# Altium schematic symbol library BOT1_2025.SchLib: 300 symbols (part 3 of 3)
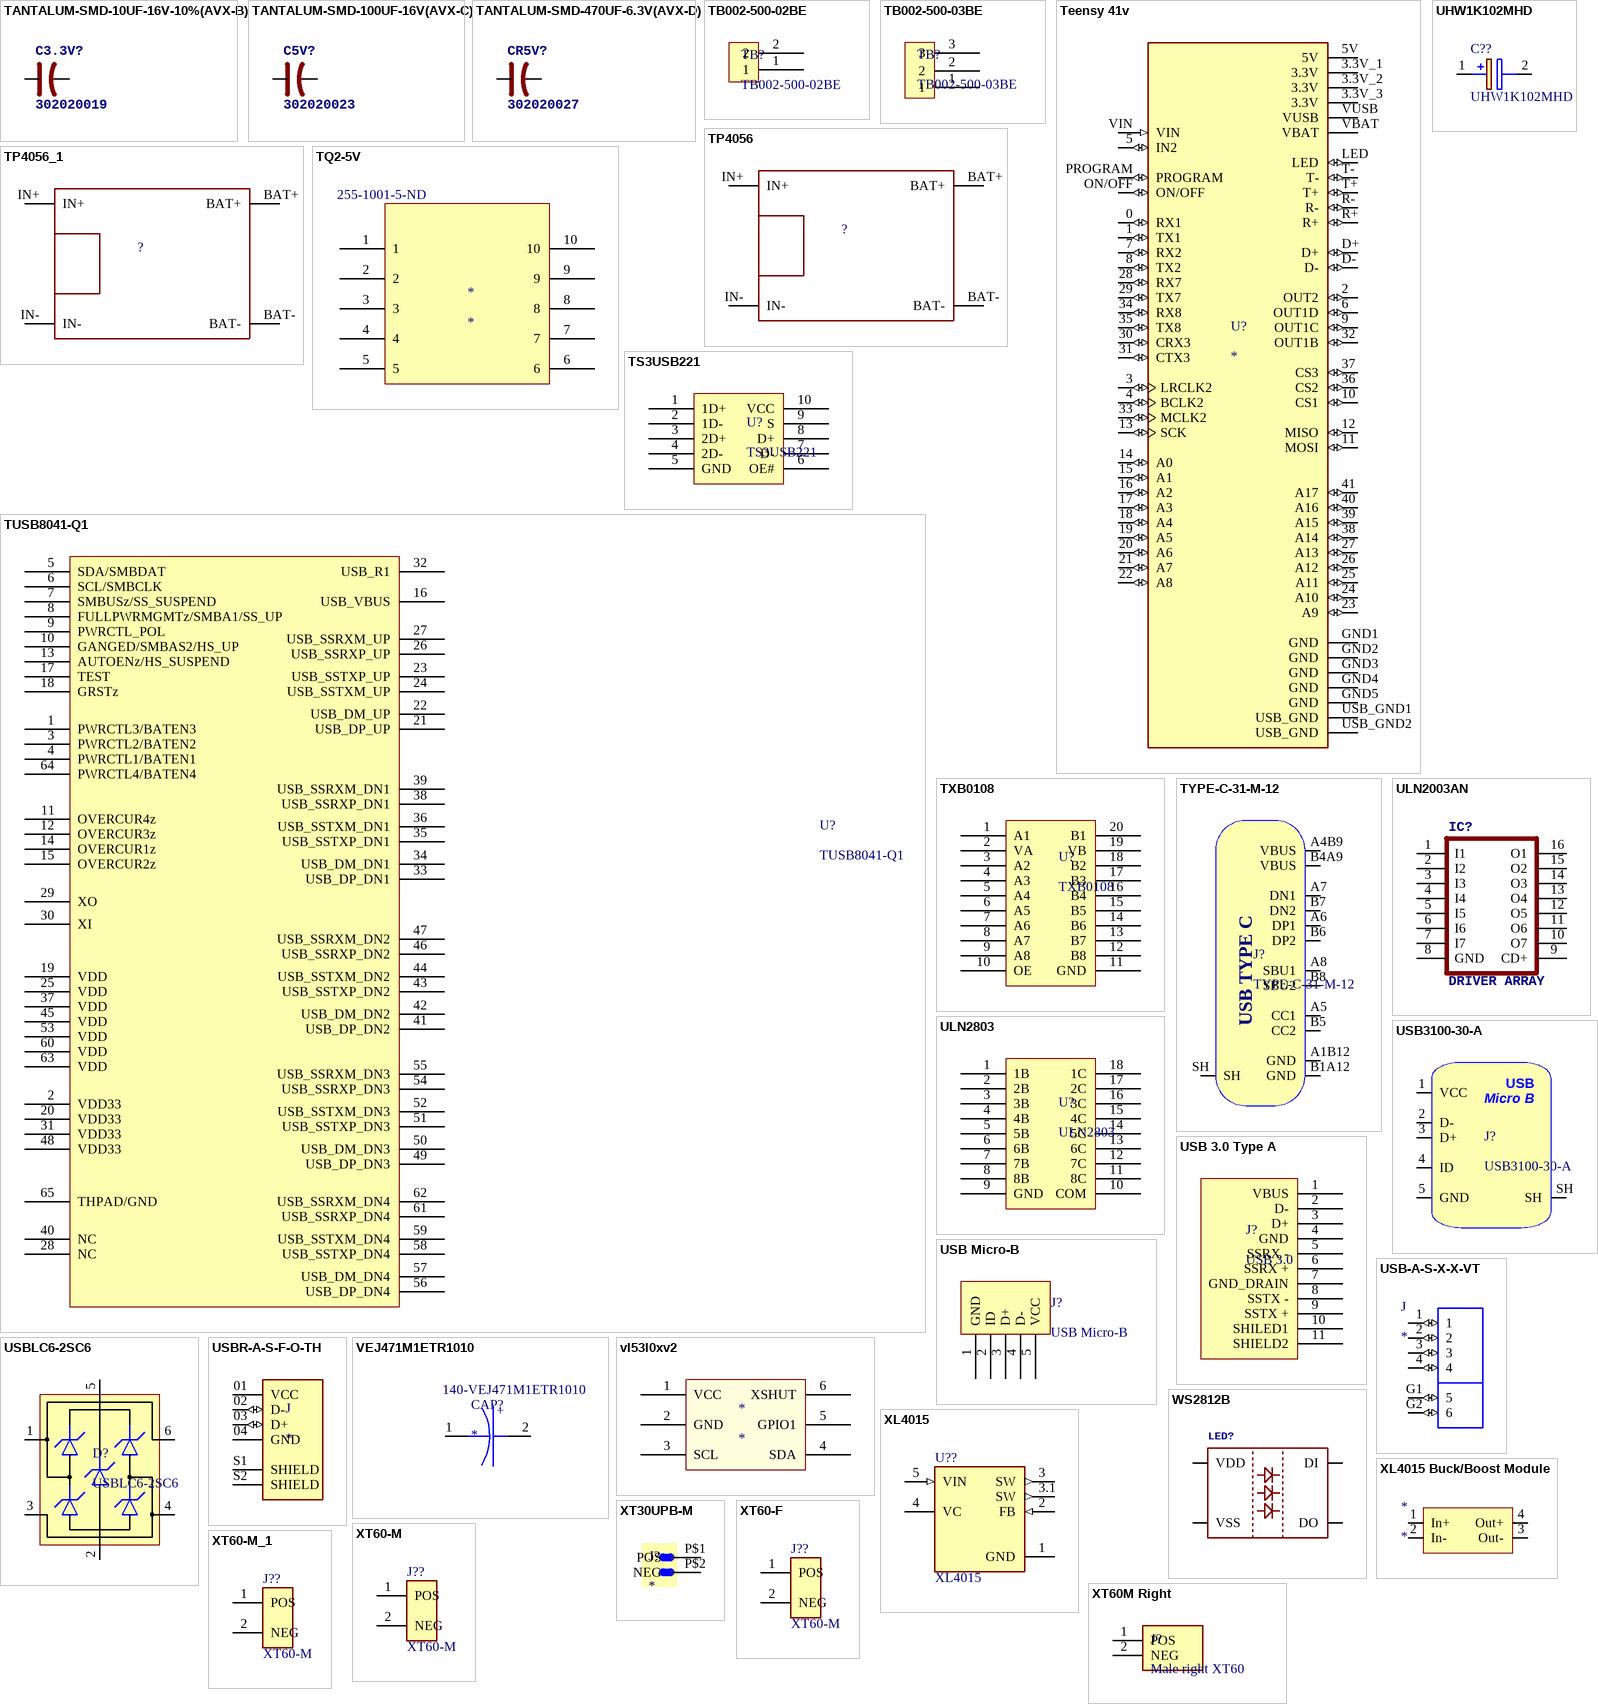
[diagram p10: symbols TANTALUM-SMD-10UF-16V-10%(AVX-B) to XT60M Right]

## TUSB8041-Q1
designator U?
Four-Port USB 3.0 Hub
footprint PM064_N (64-Pin Thin Quad Flat Pack 0.5 mm Pitch, IPC Medium Density)
pins: 1 PWRCTL3/BATEN3, 2 VDD33, 3 PWRCTL2/BATEN2, 4 PWRCTL1/BATEN1, 5 SDA/SMBDAT, 6 SCL/SMBCLK, 7 SMBUSz/SS_SUSPEND, 8 FULLPWRMGMTz/SMBA1/SS_UP, 9 PWRCTL_POL, 10 GANGED/SMBAS2/HS_UP, 11 OVERCUR4z, 12 OVERCUR3z, 13 AUTOENz/HS_SUSPEND, 14 OVERCUR1z, 15 OVERCUR2z, 16 USB_VBUS, 17 TEST , 18 GRSTz, 19 VDD, 20 VDD33, 21 USB_DP_UP, 22 USB_DM_UP, 23 USB_SSTXP_UP, 24 USB_SSTXM_UP, 25 VDD, 26 USB_SSRXP_UP, 27 USB_SSRXM_UP, 28 NC, 29 XO, 30 XI, 31 VDD33, 32 USB_R1, 33 USB_DP_DN1, 34 USB_DM_DN1, 35 USB_SSTXP_DN1, 36 USB_SSTXM_DN1, 37 VDD, 38 USB_SSRXP_DN1, 39 USB_SSRXM_DN1, 40 NC, 41 USB_DP_DN2, 42 USB_DM_DN2, 43 USB_SSTXP_DN2, 44 USB_SSTXM_DN2, 45 VDD, 46 USB_SSRXP_DN2, 47 USB_SSRXM_DN2, 48 VDD33, 49 USB_DP_DN3, 50 USB_DM_DN3, 51 USB_SSTXP_DN3, 52 USB_SSTXM_DN3, 53 VDD, 54 USB_SSRXP_DN3, 55 USB_SSRXM_DN3, 56 USB_DP_DN4, 57 USB_DM_DN4, 58 USB_SSTXP_DN4, 59 USB_SSTXM_DN4, 60 VDD, 61 USB_SSRXP_DN4, 62 USB_SSRXM_DN4, 63 VDD, 64 PWRCTL4/BATEN4, 65 THPAD/GND

## TXB0108
designator U?
8-Bit Bidirectional Voltage-Level Translator
footprint SOP20
pins: 1 A1, 2 VA, 3 A2, 4 A3, 5 A4, 6 A5, 7 A6, 8 A7, 9 A8, 10 OE, 11 GND, 12 B8, 13 B7, 14 B6, 15 B5, 16 B4, 17 B3, 18 B2, 19 VB, 20 B1

## TYPE-C-31-M-12
designator J?
USB Type C Connector Horizontal SMT; Manufacturer: Koren Hroparts; Manufacturer Part Number: TYPE-C-31-M-12
footprint TYPE-C-31-M-12
pins: A1B12 GND (power), A4B9 VBUS (power), A5 CC1, A6 DP1 (io), A7 DN1 (io), A8 SBU1 (io), B1A12 GND (power), B4A9 VBUS (power), B5 CC2 (hiz), B6 DP2 (io), B7 DN2 (io), B8 SBU2 (io), SH (power)
text: USB TYPE C

## UHW1K102MHD
designator C??
Capacitor Polarised; Manufacturer_Name: Nichicon; Datasheet Link: https://componentsearchengine.com/Datasheets/1/UHW1K102MHD.pdf; Height: 37.5mm; Manufacturer_Part_Number: UHW1K102MHD; Mouser Part Number: 647-UHW1K102MHD; Mouser Price/Stock: https://www.mouser.com/Search/Refine.aspx?Keyword=647-UHW1K102MHD
footprint CAPPRD750W80D1625H3750
pins: 1 +, 2 -

## ULN2003AN
designator IC?, comment DRIVER ARRAY
footprint DIL16
pins: 1 I1, 2 I2, 3 I3, 4 I4, 5 I5, 6 I6, 7 I7, 8 GND (power), 9 CD+, 10 O7 (oc), 11 O6 (oc), 12 O5 (oc), 13 O4 (oc), 14 O3 (oc), 15 O2 (oc), 16 O1 (oc)

## ULN2803
designator U?
Darlington Transistor Arrays
footprint SOIC 18 (16-Pin Small Outline Integrated Circuit 1.27 mm Pitch, IPC Low Density)
pins: 1 1B, 2 2B, 3 3B, 4 4B, 5 5B, 6 6B, 7 7B, 8 8B, 9 GND, 10 COM, 11 8C, 12 7C, 13 6C, 14 5C, 15 4C, 16 3C, 17 2C, 18 1C

## USB3100-30-A
designator J?
USB Connector Type Micro B 2.0 SMD Reverse Mount; Manufacturer: GCT; Manufacturer Part Number: USB3100-30-A
footprint USB3100-30-A
pins: 1 VCC, 2 D-, 3 D+, 4 ID, 5 GND, SH
text: USB; Micro B

## USB 3.0 Type A
designator J?, comment USB 3.0
USB 3.0 Type A Feamle
footprint USB 3.0 (Type A female)
pins: 1 VBUS, 2 D-, 3 D+, 4 GND, 5 SSRX -, 6 SSRX +, 7 GND_DRAIN, 8 SSTX -, 9 SSTX +, 10 SHILED1, 11 SHIELD2

## USB Micro-B
designator J?
footprint USB Micro - B
pins: 1 GND, 2 ID, 3 D+, 4 D-, 5 VCC

## USB-A-S-X-X-VT
designator J
USB-A _USB TYPE-A_ USB 2.0 Receptacle Connector 4 Position Through Hole; MF: Samtec Inc.; MP: USB-A-S-F-B-VT; Package: None; Value: *; Availability: Unavailable; SnapEDA_Link: https://www.snapeda.com/parts/USB-A-S-F-B-VT/Samtec%20Inc./view-part/787209/?ref=snap; Price: None
footprint USB-A-S-X-X-VT
pins: 1 (io), 2 (io), 3 (io), 4 (io), G1 5 (io), G2 6 (io)

## USBLC6-2SC6
designator D?
Low-Capacitance ESD Protection USB; Manufacturer: STMicroelectronics; Manufacturer Part Number: USBLC6-2SC6; Distributor Link: https://www.mouser.de/ProductDetail/STMicroelectronics/USBLC6-2SC6?qs=po45yt2pPpu%2FhNIlwQdTlg%3D%3D
footprint SOT-23-6
pins: 1 IO1 (io), 2 GND (power), 3 IO2 (io), 4 IO2 (io), 5 VBUS (power), 6 IO1 (io)

## USBR-A-S-F-O-TH
designator J
USB-A _USB TYPE-A_ USB 2.0 Receptacle Connector 4 Position Through Hole, Right Angle; MF: Samtec; MP: USBR-A-S-F-O-TH; SnapEDA_Link: https://www.snapeda.com/parts/USBR-A-S-F-O-TH/Samtec%20Inc./view-part/932528/?ref=snap; Value: *; Toby_UK-Purchase-URL: https://snapeda.com/shop?store=Toby+UK&id=932528; Package: None; DigiKey-Purchase-URL: https://snapeda.com/shop?store=DigiKey&id=932528; Price: None; Availability: Unavailable
footprint SAMTEC_USBR-A-S-F-O-TH
pins: 01 VCC (power), 02 D- (io), 03 D+ (io), 04 GND (power), S1 SHIELD, S2 SHIELD

## VEJ471M1ETR1010
designator CAP?  Supplier Part Number 1: 140-VEJ471M1ETR1010
Supplier 1: Mouser
footprint VEJ471M1ETR1010
pins: 1, 2 +

## vl53l0xv2
designator *
footprint VL53L0X V2 (ToF sensor)
footprint VL53L0X V2 90 (ToF sensor)
pins: 1 VCC (power), 2 GND (power), 3 SCL (power), 4 SDA (power), 5 GPIO1 (power), 6 XSHUT (power)

## WS2812B
designator LED?
GateName_1: G$1; SymbolName_1: WS2812B; LibraryName: WS2812; DeviceSetName: WS2812B; Package: WS2812B
footprint WS2812B
pins: 1 VDD, 2 DO, 3 VSS, 4 DI

## XL4015
designator U??
5A 180KHz 36V Buck DC to DC Converter; MF: XLSEMI; Value: *; Availability: Unavailable; Price: None; SnapEDA_Link: https://www.snapeda.com/parts/XL4015/XLSEMI/view-part/4725363/?ref=snap; Package: Package; MP: XL4015
footprint CONV_XL4015
pins: 1 GND (power), 2 FB (in), 3 SW (out), 3.1 SW (out), 4 VC, 5 VIN (in)

## XL4015 Buck/Boost Module
designator *
footprint XL4015 Module
pins: 1 In+ (power), 2 In- (power), 3 Out- (power), 4 Out+ (power)

## XT30UPB-M
designator J?
Socket; DC supply; XT30; male; PIN: 2; on PCBs; THT; yellow; 15A; 500V; MP: XT30UPB-M; MF: amass; Value: *; SnapEDA_Link: https://www.snapeda.com/parts/XT30UPB-M/AMASS/view-part/?ref=snap; Price: None; Package: None; Check_prices: https://www.snapeda.com/parts/XT30UPB-M/AMASS/view-part/?ref=eda; Availability: Not in stock
footprint XT30UPB-M
pins: P$1 POS, P$2 NEG

## XT60-F
designator J??, comment XT60-M
Plug; DC supply; XT60; male; PIN: 2; for cable; soldered; 30A; 500V; MF: AMASS; MP: XT60-M; Price: None; Package: Package Analog Devices; Value: *; Availability: Unavailable; SnapEDA_Link: https://www.snapeda.com/parts/XT60-M/AMASS/view-part/2883912/?ref=snap
footprint XT60-F
pins: 1 POS, 2 NEG

## XT60-M
designator J??
Plug; DC supply; XT60; male; PIN: 2; for cable; soldered; 30A; 500V; MF: AMASS; MP: XT60-M; Price: None; Package: Package Analog Devices; Value: *; Availability: Unavailable; SnapEDA_Link: https://www.snapeda.com/parts/XT60-M/AMASS/view-part/2883912/?ref=snap
footprint XT60-M
pins: 1 POS (power), 2 NEG (power)

## XT60-M_1
designator J??, comment XT60-M
Plug; DC supply; XT60; male; PIN: 2; for cable; soldered; 30A; 500V; MF: AMASS; MP: XT60-M; Price: None; Package: Package Analog Devices; Value: *; Availability: Unavailable; SnapEDA_Link: https://www.snapeda.com/parts/XT60-M/AMASS/view-part/2883912/?ref=snap
footprint XT-60M
pins: 1 POS (power), 2 NEG (power)

## XT60M Right
designator J?, comment Male right XT60
footprint XT60M Right
pins: 1 POS (power), 2 NEG (power)

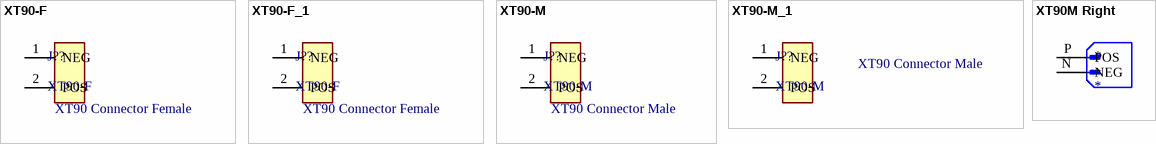
[diagram p8: symbols XT90-F to XT90M Right]

## XT90-F
designator J??
footprint XT90-F
pins: 1 NEG, 2 POS
text: XT90 Connector Female

## XT90-F_1
designator J??, comment XT90-F
footprint XT90-F
pins: 1 NEG, 2 POS
text: XT90 Connector Female

## XT90-M
designator J??
footprint XT90-M
pins: 1 NEG, 2 POS
text: XT90 Connector Male

## XT90-M_1
designator J??, comment XT90-M
footprint XT90-M
pins: 1 NEG, 2 POS
text: XT90 Connector Male

## XT90M Right
designator *
footprint XT90M Right
pins: N NEG, P POS